# Altium footprint library DPAK127P1490X440-8N.PcbLib: 1 footprints
Each footprint in its own frame and in the unit in brackets; x right, y up, seen from the top. Pads: shape width x height; smd on the part's side, far side on the other; paste and mask are expansions set on the pad; w line width, h text height; cw(c..) or ccw(c..) is an arc to the next point about the centre after c.
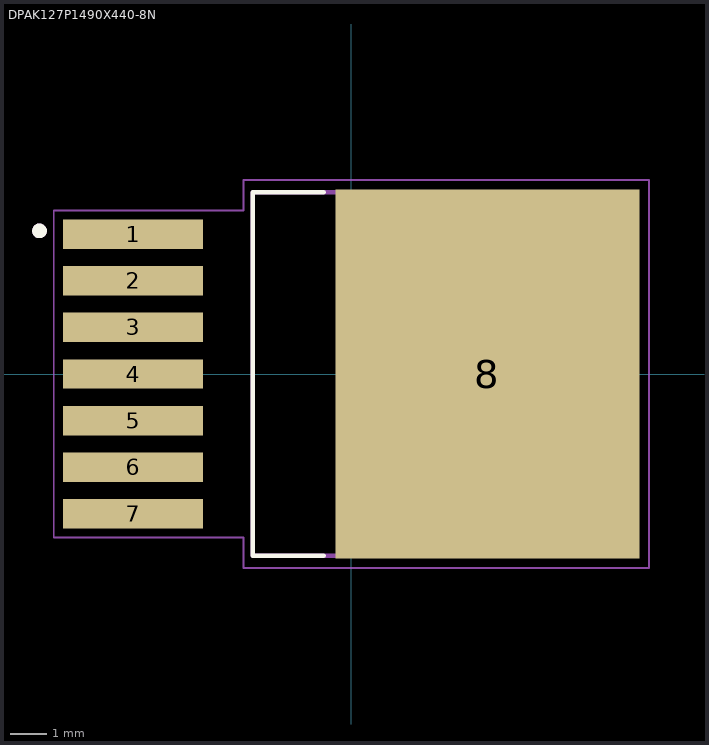
[diagram p0: the footprint, top view; thin cyan lines are the x and y axes]

## DPAK127P1490X440-8N [mm]
pads (8):
  rect 3.81x0.8 smd: 1(-5.95,3.81) 2(-5.95,2.54) 3(-5.95,1.27) 4(-5.95,0) 5(-5.95,-1.27) 6(-5.95,-2.54) 7(-5.95,-3.81)
  rect 8.29x10.07 smd paste-4.36: 8(3.71,0)
Top Overlay:
  circle w0.2: c-8.5,3.9 r0.1
  lines w0.127: -0.749,-4.95 -2.69,-4.95 -2.69,4.95 -0.749,4.95
Top Paste:
  region: 4.535,1.345 2.885,1.345 2.885,2.695 4.535,2.695
  region: 4.535,3.365 2.885,3.365 2.885,4.715 4.535,4.715
  region: 4.535,-2.695 2.885,-2.695 2.885,-1.345 4.535,-1.345
  region: 4.535,-4.715 2.885,-4.715 2.885,-3.365 4.535,-3.365
  region: 7.295,3.365 5.645,3.365 5.645,4.715 7.295,4.715
  region: 7.295,1.345 5.645,1.345 5.645,2.695 7.295,2.695
  region: 7.295,-0.675 5.645,-0.675 5.645,0.675 7.295,0.675
  region: 7.295,-2.695 5.645,-2.695 5.645,-1.345 7.295,-1.345
  region: 7.295,-4.715 5.645,-4.715 5.645,-3.365 7.295,-3.365
  region: 1.775,-4.715 0.125,-4.715 0.125,-3.365 1.775,-3.365
  region: 1.775,-2.695 0.125,-2.695 0.125,-1.345 1.775,-1.345
  region: 1.775,-0.675 0.125,-0.675 0.125,0.675 1.775,0.675
  region: 1.775,1.345 0.125,1.345 0.125,2.695 1.775,2.695
  region: 1.775,3.365 0.125,3.365 0.125,4.715 1.775,4.715
Mechanical 13:
  circle w0.2: c-8.5,3.9 r0.1
  lines w0.127: -2.69,-4.95 6.71,-4.95 6.71,4.95 -2.69,4.95 -2.69,-4.95
Mechanical 15:
  lines w0.05: -8.11,-4.46 -2.94,-4.46 -2.94,-5.29 8.11,-5.29 8.11,5.29 -2.94,5.29 -2.94,4.46 -8.11,4.46 -8.11,-4.46
3D body "step_temp.STEP": height 4.4, standoff 0, extent -7.45,-4.95 7.45,4.95